# Altium integrated library BLE18PS080SZ1D.IntLib: 1 symbol
Pins are listed as number, name and electrical type; pins without a type are passive.

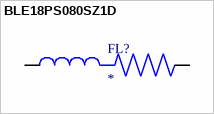
[diagram p0: symbol BLE18PS080SZ1D]

## BLE18PS080SZ1D
designator FL?
Murata; MP: BLE18PS080SZ1D; Package: None; Price: None; Value: *; Availability: Unavailable
footprint BEADC1608X75N
pins: 1, 2